# Altium schematic symbol library Sheet_1_2021-12-20.SCHLIB: 1 symbol
Pins are listed as number, name and electrical type; pins without a type are passive.

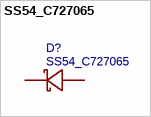
[diagram p0: symbol SS54_C727065]

## SS54_C727065
designator D?
BOM_Manufacturer: TWGMC; BOM_Manufacturer Part: SS54; Contributor: LCSC; BOM_Supplier: LCSC; BOM_Supplier Part: C727065; BOM_JLCPCB Part Class: Extended Part; spicePre: D; spiceSymbolName: SS54_C727065
footprint SMA_L4.3-W2.6-LS5.0-RD
pins: 1, 2